# EAGLE library part DPDTSLIDE (library dtb)
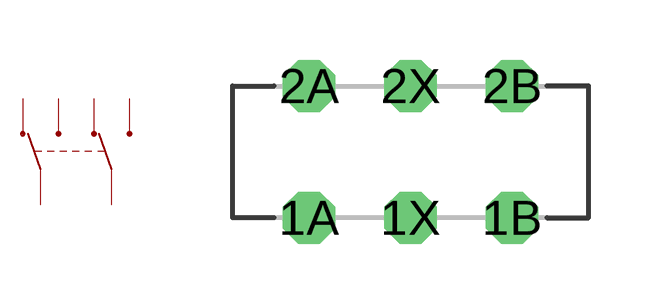
[diagram p1: symbol with the pads of DPDTSLIDE; footprint DPDTSLIDE]

Designator prefix -

## DPDTSLIDE  [DPDTSLIDE]
1A  NC0
1B  NO0
1X  COM0
2A  NC1
2B  NO1
2X  COM1

## Footprint DPDTSLIDE (pad centres in mm)
drill 0.8 octagon: 1A -2.54,-1.65; 1B 2.54,-1.65; 1X 0,-1.65; 2A -2.54,1.65; 2B 2.54,1.65; 2X 0,1.65